# Altium schematic symbol library Diode.SchLib: 43 symbols
Pins are listed as number, name and electrical type; pins without a type are passive.

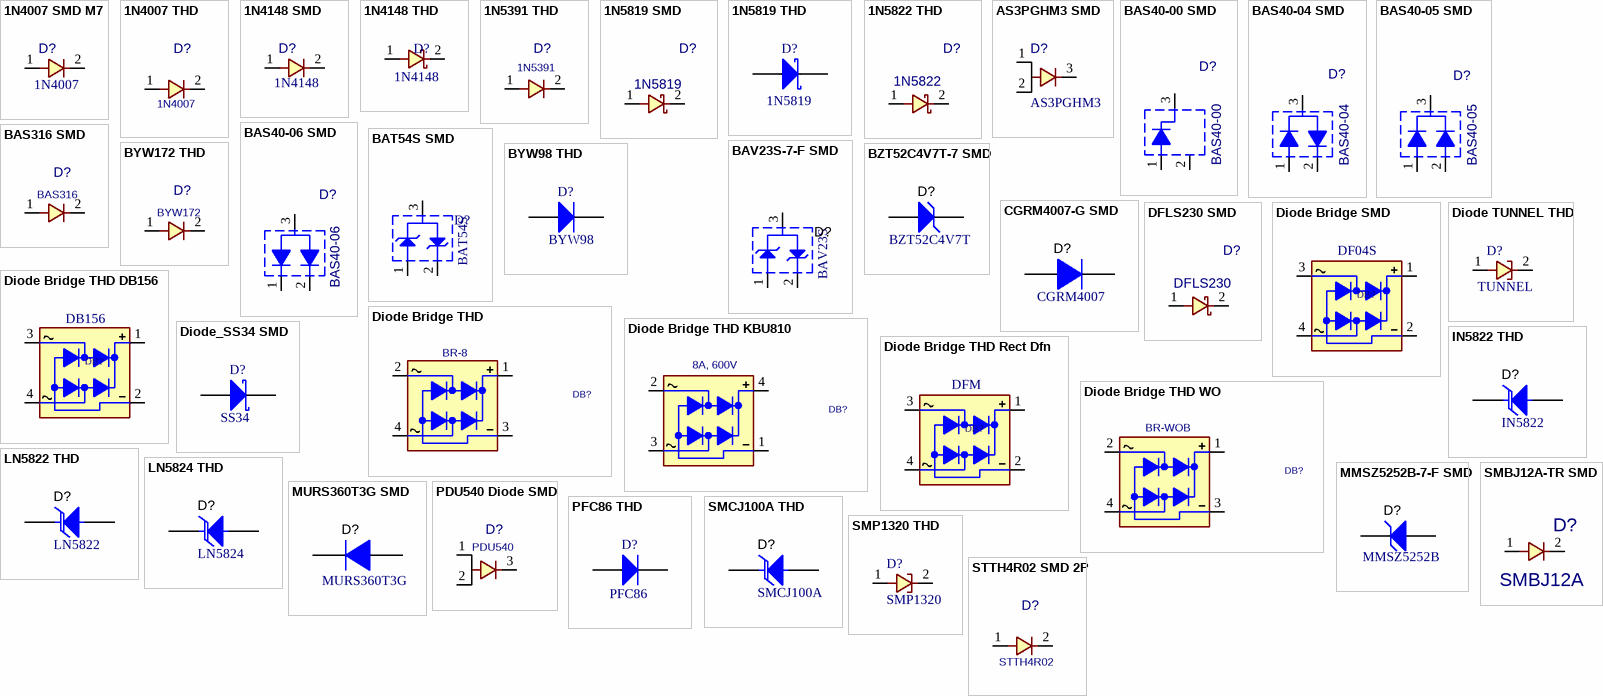
[diagram p0: symbols 1N4007 SMD M7 to STTH4R02 SMD 2P]

## 1N4007 SMD M7
designator D?  value 1N4007
DIODE, GENERAL PURPOSE, 1000V/1A; DatasheetVersion: 2022
footprint D_SMA (SMA Molded Diode, 2-Leads, Body 4.3x2.7mm, SOD-128)
pins: 1, 2

## 1N4007 THD
designator D?  value 1N4007
DIODE, GENERAL PURPOSE, 1000V/1A; DatasheetVersion: 2022
footprint D_AX04_DO41 (DIODE 0.4 INCH SPACING DO-41)
footprint D_AX03_1WS (DIODE 0.3 INCH SPACING 1W STAND)
footprint Diode (Diode, Axial; Body 5.2 x 2.7 mm (LxDia. max), Lead Dia. 0.86 mm (max))
footprint Diode-1n4001
pins: 1, 2

## 1N4148 SMD
designator D?  value 1N4148
DIODE, FAST SWTICHING, 0.3A, 0.5W; DatasheetVersion: 2022
footprint LL4148 (MELF Diode, 2-Leads, Body 3.5x1.4mm, IPC Medium Density)
footprint D_SOD80 (SOD-80 MINI-MELF 3.6X1.6mm, LL-34, LL4148)
footprint D1808 (MELF, DIOD1810, SOD-87)
footprint D2010 (MELF Diode, 2-Leads, Body 5.0X2.5mm)
footprint D_SOD523 (SOD523 SC-79 Molded Diode, 2-Leads, 1.2x0.8mm)
pins: 1, 2

## 1N4148 THD
designator D?  value 1N4148
High Conductance Fast Diode; DatasheetVersion: 2022
footprint Diode 1W
footprint Diode 1W_Stand
footprint D_AX02_DO35 (DIODE 0.2 INCH SPACING DO-35, 1N4148)
footprint DO-35- (Diode, Axial; Body 3.8 x 1.9 mm (LxDia. max), Lead Dia. 0.53 mm (max))
pins: 1, 2

## 1N5391 THD
designator D?  value 1N5391
DIODE, GENERAL PURPOSE,; DatasheetVersion: 2022
footprint D_AX04_DO41 (DIODE 0.4 INCH SPACING DO-41)
pins: 1, 2

## 1N5819 SMD
designator D?  value 1N5819
DIODE, SCHOTTKY, 40V, 1A; DatasheetVersion: 2022
footprint D_SOD123W (PowerDI-123, SOD123, DO-213AA, 1206D)
pins: 1, 2

## 1N5819 THD
designator D?  value 1N5819
Schottky diode; ComponentLinkp-URL: https://www.smartw.ir/; DatasheetVersion: 2022
footprint Diode (Diode, Axial; Body 5.2 x 2.7 mm (LxDia. max), Lead Dia. 0.86 mm (max))
pins: 1 A, 2 K

## 1N5822 THD
designator D?  value 1N5822
DIODE, SCHOTTKY, 40V, 3A; DatasheetVersion: 2022
footprint D_AX06_DO27 (DIODE 0.6 INCH SPACING A-500 (Vishay)  DO201A DO-27 BYW98)
pins: 1 A, 2 K

## AS3PGHM3 SMD
designator D?  value AS3PGHM3
DIODE, FAST, 3A, 400V; DatasheetVersion: 2022
footprint D_SMPC (SMPC TO-277A, Body 6.1x4.6mm, POWERDI5)
pins: 1 A1, 2 A2, 3 CATHODE

## BAS40-00 SMD
designator D?  value BAS40-00
DIODE, SCHOTTKY, 40V, 0.2A; DatasheetVersion: 2022
footprint SOT23_BEC_L (SOT23, 3-Leads, Body 2.9x1.3mm, Pitch 0.95mm, Lead Span 2.4mm, IPC High Density)
footprint SOT23_BEC_M (SOT23, 3-Leads, Body 2.9x1.3mm, Pitch 0.95mm, Lead Span 2.4mm, IPC Low Density)
footprint SOT23_BEC_N (SOT23, 3-Leads, Body 2.9x1.3mm, Pitch 0.95mm, Lead Span 2.4mm, IPC Medium Density)
pins: 1, 2, 3 "Not Connected"

## BAS40-04 SMD
designator D?  value BAS40-04
DIODE, SCHOTTKY, 40V, 0.2A; DatasheetVersion: 2022
footprint SOT23_BEC_L (SOT23, 3-Leads, Body 2.9x1.3mm, Pitch 0.95mm, Lead Span 2.4mm, IPC High Density)
footprint SOT23_BEC_M (SOT23, 3-Leads, Body 2.9x1.3mm, Pitch 0.95mm, Lead Span 2.4mm, IPC Low Density)
footprint SOT23_BEC_N (SOT23, 3-Leads, Body 2.9x1.3mm, Pitch 0.95mm, Lead Span 2.4mm, IPC Medium Density)
pins: 1, 2, 3 "Not Connected"

## BAS40-05 SMD
designator D?  value BAS40-05
DIODE, SCHOTTKY, 40V, 0.2A; DatasheetVersion: 2022
footprint SOT23_BEC_L (SOT23, 3-Leads, Body 2.9x1.3mm, Pitch 0.95mm, Lead Span 2.4mm, IPC High Density)
footprint SOT23_BEC_M (SOT23, 3-Leads, Body 2.9x1.3mm, Pitch 0.95mm, Lead Span 2.4mm, IPC Low Density)
footprint SOT23_BEC_N (SOT23, 3-Leads, Body 2.9x1.3mm, Pitch 0.95mm, Lead Span 2.4mm, IPC Medium Density)
pins: 1, 2, 3 "Not Connected"

## BAS40-06 SMD
designator D?  value BAS40-06
DIODE, SCHOTTKY, 40V, 0.2A; DatasheetVersion: 2022
footprint SOT23_BEC_L (SOT23, 3-Leads, Body 2.9x1.3mm, Pitch 0.95mm, Lead Span 2.4mm, IPC High Density)
footprint SOT23_BEC_M (SOT23, 3-Leads, Body 2.9x1.3mm, Pitch 0.95mm, Lead Span 2.4mm, IPC Low Density)
footprint SOT23_BEC_N (SOT23, 3-Leads, Body 2.9x1.3mm, Pitch 0.95mm, Lead Span 2.4mm, IPC Medium Density)
pins: 1, 2, 3 "Not Connected"

## BAS316 SMD
designator D?  value BAS316
DIODE, HiSP SW, 100V/0.25A, SOD-323; DatasheetVersion: 2022
footprint D0805 (DIODE0805, SOD323 (PHILIPS), SC-76 (JEITA), DL-35)
pins: 1, 2

## BAT54S SMD
designator D?  value BAT54S
BAT54S / Schottky Barrier Double Diode; DatasheetVersion: 2022
footprint SOT23_BEC_N (SOT23, 3-Leads, Body 2.9x1.3mm, Pitch 0.95mm, Lead Span 2.4mm, IPC Medium Density)
footprint SOT23_BEC_L (SOT23, 3-Leads, Body 2.9x1.3mm, Pitch 0.95mm, Lead Span 2.4mm, IPC High Density)
footprint SOT23_BEC_M (SOT23, 3-Leads, Body 2.9x1.3mm, Pitch 0.95mm, Lead Span 2.4mm, IPC Low Density)
pins: 1 "Not Connected", 2 "Not Connected", 3 "Not Connected"

## BAV23S-7-F SMD
designator D?  value BAV23S
Diode, Switching, 200 V, 0.4 A, SOT-23; DatasheetVersion: 2022
footprint SOT23_BEC_L (SOT23, 3-Leads, Body 2.9x1.3mm, Pitch 0.95mm, Lead Span 2.4mm, IPC High Density)
footprint SOT23_BEC_M (SOT23, 3-Leads, Body 2.9x1.3mm, Pitch 0.95mm, Lead Span 2.4mm, IPC Low Density)
footprint SOT23_BEC_N (SOT23, 3-Leads, Body 2.9x1.3mm, Pitch 0.95mm, Lead Span 2.4mm, IPC Medium Density)
pins: 1 "Not Connected", 2 "Not Connected", 3 "Not Connected"
1 alternate drawing of the same symbol

## BYW98 THD
designator D?  value BYW98
HIGH EFFICIENCY FAST RECOVERY RECTIFIER DIODES; DatasheetVersion: 2022
footprint BYW98
pins: 1 A, 2 K

## BYW172 THD
designator D?  value BYW172
DIODE, FAST; DatasheetVersion: 2022
footprint D_AX06_SOD64 (DIODE 0.6 INCH SPACING SOD-64)
pins: 1, 2

## BZT52C4V7T-7 SMD
designator D?  value BZT52C4V7T
Diode, Zener, 4.7 V, 300 mW, SOD-523; DatasheetVersion: 2022
footprint D_SOD523 (SOD523 SC-79 Molded Diode, 2-Leads, 1.2x0.8mm)
pins: 1 A, 2 K

## CGRM4007-G SMD
designator D?  value CGRM4007
Diode, P-N, 1000 V, 1 A, 3.9x1.7x1.8mm; DatasheetVersion: 2022
footprint D_SMA (SMA Molded Diode, 2-Leads, Body 4.3x2.7mm, SOD-128)
pins: 1 A, 2 K

## DFLS230 SMD
designator D?  value DFLS230
DIODE, SCHOTTKY, 30V, 2A; DatasheetVersion: 2022
footprint D_SOD123W (PowerDI-123, SOD123, DO-213AA, 1206D)
pins: 1, 2

## Diode Bridge SMD
designator DB?  value DF04S
DIODE, BRIDGE,; DatasheetVersion: 2022
footprint DBRG_DIPSMD (BRIDGE RECTIFIER, pitch: 5.08mm, 8X6mm, DB-S, DF005S)
pins: 1 DCOUT+, 2 DCOUT-, 3 ACIN2, 4 ACIN1

## Diode Bridge THD
designator DB?  value BR-8
DIODE, BRIDGE, 8A, 600V; DatasheetVersion: 2022
footprint DBRG_S20 (BRIDGE RECTIFIER, pitch: 12.7mm, 20X20mm)
pins: 1 +DC, 2 AC1, 3 -DC, 4 AC2

## Diode Bridge THD DB156
designator DB?  value DB156
DIODE, BRIDGE,; DatasheetVersion: 2022
footprint DBRG_DIP (BRDIGE RECTIFIER, pitch: 5.08mm, 8X5mm)
pins: 1 DCOUT+, 2 DCOUT-, 3 ACIN2, 4 ACIN1

## Diode Bridge THD KBU810
designator DB?  value 8A, 600V
DIODE, BRIDGE, 8A, 600V; DatasheetVersion: 2022
footprint DBRG_23X7 (BRDIGE RECTIFIER, KBU 810 pitch: 5.08mm, 23X7X19mm)
pins: 1 -DC, 2 AC1, 3 AC2, 4 +DC

## Diode Bridge THD Rect Dfn
designator DB?  value DFM
DIODE, BRIDGE,; DatasheetVersion: 2022
footprint DBRG_DIP (BRDIGE RECTIFIER, pitch: 5.08mm, 8X5mm)
pins: 1 DCOUT+, 2 DCOUT-, 3 ACIN2, 4 ACIN1

## Diode Bridge THD WO
designator DB?  value BR-WOB
DIODE, BRIDGE,; DatasheetVersion: 2022
footprint DBRG_C10 (BRDIGE RECTIFIER, WOB WOG, pitch: 5.08mm, 10X10mm)
pins: 1 +DC, 2 AC1, 3 -DC, 4 AC2

## Diode TUNNEL THD
designator D?  value TUNNEL
DIODE, THD, TUNNEL or PIN diode; DatasheetVersion: 2022
footprint D_AX03_DO35 (DIODE 0.3 INCH SPACING DO35)
pins: 1, 2

## Diode_SS34 SMD
designator D?  value SS34
Schottky diode; ComponentLinkp-URL: https://www.smartw.ir/; DatasheetVersion: 2022
footprint Diode_SS34
pins: 1 A, 2 K

## IN5822 THD
designator D?  value IN5822
Diode, , 20 - 40V, 3.0 A; DatasheetVersion: 2022
footprint BYW98
pins: 1 A, 2 K

## LN5822 THD
designator D?  value LN5822
Diode, , 40V, 3.0 A; DatasheetVersion: 2022
footprint BYW98
pins: 1 A, 2 K

## LN5824 THD
designator D?  value LN5824
Diode, , 20 - 40V, 5.0 A; DatasheetVersion: 2022
footprint BYW98
pins: 1 A, 2 K

## MMSZ5252B-7-F SMD
designator D?  value MMSZ5252B
Diode, Zener, 24V, 500mW, SOD-123; DatasheetVersion: 2022
footprint D_SOD123W (PowerDI-123, SOD123, DO-213AA, 1206D)
pins: 1 A, 2 K

## MURS360T3G SMD
designator D?  value MURS360T3G
Diode, Ultrafast, 600 V, 3 A, SMC; DatasheetVersion: 2022
footprint D_SMC (SMC, Molded Diode, 7.0x6.0mm)
pins: 1 A, 2 K

## PDU540 Diode SMD
designator D?  value PDU540
DIODE, FAST, 5A, 400V; DatasheetVersion: 2022
footprint D_SMPC (SMPC TO-277A, Body 6.1x4.6mm, POWERDI5)
pins: 1 A1, 2 A2, 3 CATHODE

## PFC86 THD
designator D?  value PFC86
8 A 600V HYPERFAST RECOVERY RECTIFIER; DatasheetVersion: 2022
footprint TO-220A
pins: 1 K, 2 A

## SMBJ12A-TR SMD
designator D?  value SMBJ12A
TVS Surface Mount Transient Voltage Suppressors Diode; DatasheetVersion: 2022
footprint D_SMB (SMB Molded Diode, 2-Leads, Body 4.3x3.5mm)
pins: 1, 2

## SMCJ100A THD
designator D?  value SMCJ100A
Diode, TVS, Uni, 130V, 1500 W, TH; DatasheetVersion: 2022
footprint BYW98
pins: 1 A, 2 K

## SMP1320 THD
designator D?  value SMP1320
DIODE, SMD, TUNNEL; DatasheetVersion: 2022
footprint D_SOD523 (SOD523 SC-79 Molded Diode, 2-Leads, 1.2x0.8mm)
pins: 1, 2

## STTH4R02 SMD 2P
designator D?  value STTH4R02
DIODE, FAST, 4A, 200V; DatasheetVersion: 2022
footprint D_SMC (SMC, Molded Diode, 7.0x6.0mm)
footprint D_SMB (SMB Molded Diode, 2-Leads, Body 4.3x3.5mm)
pins: 1 A, 2 CATHODE

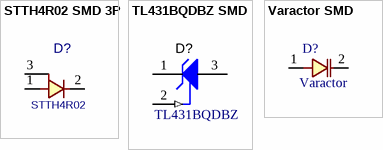
[diagram p1: symbols STTH4R02 SMD 3P to Varactor SMD]

## STTH4R02 SMD 3P
designator D?  value STTH4R02
DIODE, FAST, 4A, 200V; DatasheetVersion: 2022
footprint Dpak TO 252
pins: 1 A, 2 CATHODE, 3 NC

## TL431BQDBZ SMD
designator D?  value TL431BQDBZ
PRECISION PROGRAMMABLE REFERENCE, DBZ0003A; DatasheetVersion: 2022
footprint DBZ0003A_L (SOT23, 3-Leads, Body 2.9x1.3mm, Pitch 0.95mm, Lead Span 2.4mm, IPC High Density)
pins: 1 CATHODE, 2 REF (in), 3 ANODE

## Varactor SMD
designator D?  value Varactor
Variable Capacitance Diode; DatasheetVersion: 2022
footprint D0805 (DIODE0805, SOD323 (PHILIPS), SC-76 (JEITA), DL-35)
pins: 1, 2